# Altium schematic symbol library WR-PHD_Pin Header_2.00mm.SchLib: 63 symbols (part 2 of 2)
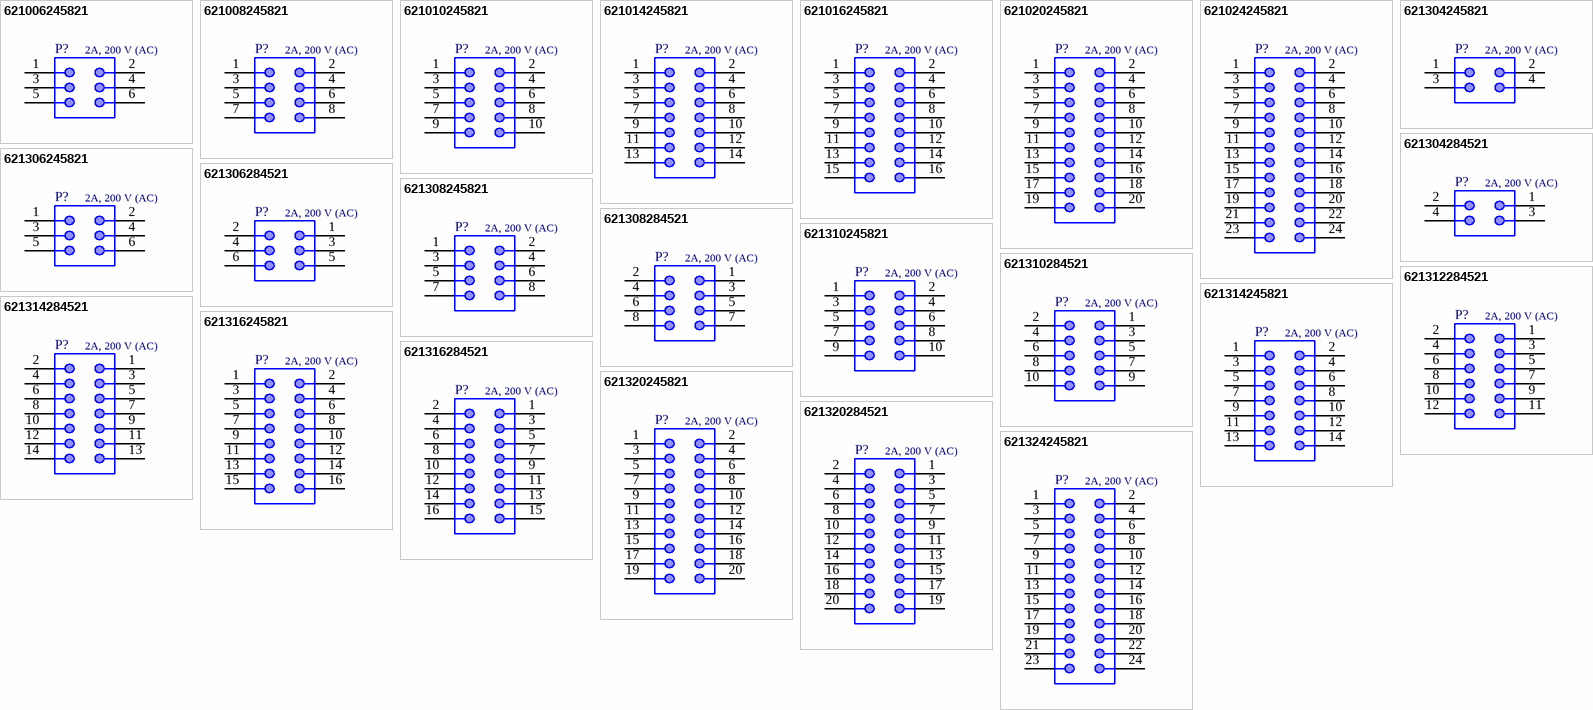
[diagram p2: symbols 621006245821 to 621324245821]

## 621310245821
designator P?, comment 2A, 200 V (AC)
WR-PHD Pin Header, SMT, pitch 2mm, Dual Row, Vertical, 10p; Manufacturer: Wurth Elektronik; Manufacturer Part Number: 621310245821; Pin Number: 10; Working Voltage: 200VAC; Withstanding Voltage: 500VAC; Contact Resistance: 20mOhm; ComponentLink1Description: Datasheet; ComponentLink1URL: https://www.we-online.com/catalog/datasheet/621310245821.pdf; Pitch: 2mm; Packaging: Tape and Reel; Gender: Pin Header; Rated Current: 2A; Row Number: Dual; Orientation: Vertical; Supplier 1 URL: N/A; Supplier 2 URL: N/A; Supplier 3 URL: N/A; LCSC Part #: N/A; Mount: SMD/SMT; Operating Temperature Max: + 105 C; Operating Temperature Min: - 40 C; Supplier 1: Mouser; Supplier 1 Part Number: N/A; Supplier 2: Digi-Key; Supplier 2 Part Number: N/A; Supplier 3: thegioiic; Supplier 3 Part Number: N/A; Value: 2A, 200 V (AC)
footprint 621310245821
pins: 1, 2, 3, 4, 5, 6, 7, 8, 9, 10

## 621310284521
designator P?, comment 2A, 200 V (AC)
WR-PHD Pin Header, SMT, pitch 2mm, Dual Row, Angled, 10p; Manufacturer: Wurth Elektronik; Manufacturer Part Number: 621310284521; Pin Number: 10; Working Voltage: 200VAC; Withstanding Voltage: 500VAC; Contact Resistance: 20mOhm; ComponentLink1Description: Datasheet; ComponentLink1URL: https://www.we-online.com/catalog/datasheet/621310284521.pdf; Pitch: 2mm; Packaging: Tape and Reel; Gender: Pin Header; Rated Current: 2A; Row Number: Dual; Orientation: Angled; Supplier 1 URL: N/A; Supplier 2 URL: N/A; Supplier 3 URL: N/A; LCSC Part #: N/A; Mount: SMD/SMT; Operating Temperature Max: + 105 C; Operating Temperature Min: - 40 C; Supplier 1: Mouser; Supplier 1 Part Number: N/A; Supplier 2: Digi-Key; Supplier 2 Part Number: N/A; Supplier 3: thegioiic; Supplier 3 Part Number: N/A; Value: 2A, 200 V (AC)
footprint 621310284521
pins: 1, 2, 3, 4, 5, 6, 7, 8, 9, 10

## 621312284521
designator P?, comment 2A, 200 V (AC)
WR-PHD Pin Header, SMT, pitch 2mm, Dual Row, Angled, 12p; Manufacturer: Wurth Elektronik; Manufacturer Part Number: 621312284521; Pin Number: 12; Working Voltage: 200VAC; Withstanding Voltage: 500VAC; Contact Resistance: 20mOhm; ComponentLink1Description: Datasheet; ComponentLink1URL: https://www.we-online.com/catalog/datasheet/621312284521.pdf; Pitch: 2mm; Packaging: Tape and Reel; Gender: Pin Header; Rated Current: 2A; Row Number: Dual; Orientation: Angled; Supplier 1 URL: N/A; Supplier 2 URL: N/A; Supplier 3 URL: N/A; LCSC Part #: N/A; Mount: SMD/SMT; Operating Temperature Max: + 105 C; Operating Temperature Min: - 40 C; Supplier 1: Mouser; Supplier 1 Part Number: N/A; Supplier 2: Digi-Key; Supplier 2 Part Number: N/A; Supplier 3: thegioiic; Supplier 3 Part Number: N/A; Value: 2A, 200 V (AC)
footprint 621312284521
pins: 1, 2, 3, 4, 5, 6, 7, 8, 9, 10, 11, 12

## 621314245821
designator P?, comment 2A, 200 V (AC)
WR-PHD Pin Header, SMT, pitch 2mm, Dual Row, Vertical, 14p; Manufacturer: Wurth Elektronik; Manufacturer Part Number: 621314245821; Pin Number: 14; Working Voltage: 200VAC; Withstanding Voltage: 500VAC; Contact Resistance: 20mOhm; ComponentLink1Description: Datasheet; ComponentLink1URL: https://www.we-online.com/catalog/datasheet/621314245821.pdf; Pitch: 2mm; Packaging: Tape and Reel; Gender: Pin Header; Rated Current: 2A; Row Number: Dual; Orientation: Vertical; Supplier 1 URL: N/A; Supplier 2 URL: N/A; Supplier 3 URL: N/A; LCSC Part #: N/A; Mount: SMD/SMT; Operating Temperature Max: + 105 C; Operating Temperature Min: - 40 C; Supplier 1: Mouser; Supplier 1 Part Number: N/A; Supplier 2: Digi-Key; Supplier 2 Part Number: N/A; Supplier 3: thegioiic; Supplier 3 Part Number: N/A; Value: 2A, 200 V (AC)
footprint 621314245821
pins: 1, 2, 3, 4, 5, 6, 7, 8, 9, 10, 11, 12, 13, 14

## 621314284521
designator P?, comment 2A, 200 V (AC)
WR-PHD Pin Header, SMT, pitch 2mm, Dual Row, Angled, 14p; Manufacturer: Wurth Elektronik; Manufacturer Part Number: 621314284521; Pin Number: 14; Working Voltage: 200VAC; Withstanding Voltage: 500VAC; Contact Resistance: 20mOhm; ComponentLink1Description: Datasheet; ComponentLink1URL: https://www.we-online.com/catalog/datasheet/621314284521.pdf; Pitch: 2mm; Packaging: Tape and Reel; Gender: Pin Header; Rated Current: 2A; Row Number: Dual; Orientation: Angled; Supplier 1 URL: N/A; Supplier 2 URL: N/A; Supplier 3 URL: N/A; LCSC Part #: N/A; Mount: SMD/SMT; Operating Temperature Max: + 105 C; Operating Temperature Min: - 40 C; Supplier 1: Mouser; Supplier 1 Part Number: N/A; Supplier 2: Digi-Key; Supplier 2 Part Number: N/A; Supplier 3: thegioiic; Supplier 3 Part Number: N/A; Value: 2A, 200 V (AC)
footprint 621314284521
pins: 1, 2, 3, 4, 5, 6, 7, 8, 9, 10, 11, 12, 13, 14

## 621316245821
designator P?, comment 2A, 200 V (AC)
WR-PHD Pin Header, SMT, pitch 2mm, Dual Row, Vertical, 16p; Manufacturer: Wurth Elektronik; Manufacturer Part Number: 621316245821; Pin Number: 16; Working Voltage: 200VAC; Withstanding Voltage: 500VAC; Contact Resistance: 20mOhm; ComponentLink1Description: Datasheet; ComponentLink1URL: https://www.we-online.com/catalog/datasheet/621316245821.pdf; Pitch: 2mm; Packaging: Tape and Reel; Gender: Pin Header; Rated Current: 2A; Row Number: Dual; Orientation: Vertical; Supplier 1 URL: N/A; Supplier 2 URL: N/A; Supplier 3 URL: N/A; LCSC Part #: N/A; Mount: SMD/SMT; Operating Temperature Max: + 105 C; Operating Temperature Min: - 40 C; Supplier 1: Mouser; Supplier 1 Part Number: N/A; Supplier 2: Digi-Key; Supplier 2 Part Number: N/A; Supplier 3: thegioiic; Supplier 3 Part Number: N/A; Value: 2A, 200 V (AC)
footprint 621316245821
pins: 1, 2, 3, 4, 5, 6, 7, 8, 9, 10, 11, 12, 13, 14, 15, 16

## 621316284521
designator P?, comment 2A, 200 V (AC)
WR-PHD Pin Header, SMT, pitch 2mm, Dual Row, Angled, 16p; Manufacturer: Wurth Elektronik; Manufacturer Part Number: 621316284521; Pin Number: 16; Working Voltage: 200VAC; Withstanding Voltage: 500VAC; Contact Resistance: 20mOhm; ComponentLink1Description: Datasheet; ComponentLink1URL: https://www.we-online.com/catalog/datasheet/621316284521.pdf; Pitch: 2mm; Packaging: Tape and Reel; Gender: Pin Header; Rated Current: 2A; Row Number: Dual; Orientation: Angled; Supplier 1 URL: N/A; Supplier 2 URL: N/A; Supplier 3 URL: N/A; LCSC Part #: N/A; Mount: SMD/SMT; Operating Temperature Max: + 105 C; Operating Temperature Min: - 40 C; Supplier 1: Mouser; Supplier 1 Part Number: N/A; Supplier 2: Digi-Key; Supplier 2 Part Number: N/A; Supplier 3: thegioiic; Supplier 3 Part Number: N/A; Value: 2A, 200 V (AC)
footprint 621316284521
pins: 1, 2, 3, 4, 5, 6, 7, 8, 9, 10, 11, 12, 13, 14, 15, 16

## 621320245821
designator P?, comment 2A, 200 V (AC)
WR-PHD Pin Header, SMT, pitch 2mm, Dual Row, Vertical, 20p; Manufacturer: Wurth Elektronik; Manufacturer Part Number: 621320245821; Pin Number: 20; Working Voltage: 200VAC; Withstanding Voltage: 500VAC; Contact Resistance: 20mOhm; ComponentLink1Description: Datasheet; ComponentLink1URL: https://www.we-online.com/catalog/datasheet/621320245821.pdf; Pitch: 2mm; Packaging: Tape and Reel; Gender: Pin Header; Rated Current: 2A; Row Number: Dual; Orientation: Vertical; Supplier 1 URL: N/A; Supplier 2 URL: N/A; Supplier 3 URL: N/A; LCSC Part #: N/A; Mount: SMD/SMT; Operating Temperature Max: + 105 C; Operating Temperature Min: - 40 C; Supplier 1: Mouser; Supplier 1 Part Number: N/A; Supplier 2: Digi-Key; Supplier 2 Part Number: N/A; Supplier 3: thegioiic; Supplier 3 Part Number: N/A; Value: 2A, 200 V (AC)
footprint 621320245821
pins: 1, 2, 3, 4, 5, 6, 7, 8, 9, 10, 11, 12, 13, 14, 15, 16, 17, 18, 19, 20

## 621320284521
designator P?, comment 2A, 200 V (AC)
WR-PHD Pin Header, SMT, pitch 2mm, Dual Row, Angled, 20p; Manufacturer: Wurth Elektronik; Manufacturer Part Number: 621320284521; Pin Number: 20; Working Voltage: 200VAC; Withstanding Voltage: 500VAC; Contact Resistance: 20mOhm; ComponentLink1Description: Datasheet; ComponentLink1URL: https://www.we-online.com/catalog/datasheet/621320284521.pdf; Pitch: 2mm; Packaging: Tape and Reel; Gender: Pin Header; Rated Current: 2A; Row Number: Dual; Orientation: Angled; Supplier 1 URL: N/A; Supplier 2 URL: N/A; Supplier 3 URL: N/A; LCSC Part #: N/A; Mount: SMD/SMT; Operating Temperature Max: + 105 C; Operating Temperature Min: - 40 C; Supplier 1: Mouser; Supplier 1 Part Number: N/A; Supplier 2: Digi-Key; Supplier 2 Part Number: N/A; Supplier 3: thegioiic; Supplier 3 Part Number: N/A; Value: 2A, 200 V (AC)
footprint 621320284521
pins: 1, 2, 3, 4, 5, 6, 7, 8, 9, 10, 11, 12, 13, 14, 15, 16, 17, 18, 19, 20

## 621324245821
designator P?, comment 2A, 200 V (AC)
WR-PHD Pin Header, SMT, pitch 2mm, Dual Row, Vertical, 24p; Manufacturer: Wurth Elektronik; Manufacturer Part Number: 621324245821; Pin Number: 24; Working Voltage: 200VAC; Withstanding Voltage: 500VAC; Contact Resistance: 20mOhm; ComponentLink1Description: Datasheet; ComponentLink1URL: https://www.we-online.com/catalog/datasheet/621324245821.pdf; Pitch: 2mm; Packaging: Tape and Reel; Gender: Pin Header; Rated Current: 2A; Row Number: Dual; Orientation: Vertical; Supplier 1 URL: N/A; Supplier 2 URL: N/A; Supplier 3 URL: N/A; LCSC Part #: N/A; Mount: SMD/SMT; Operating Temperature Max: + 105 C; Operating Temperature Min: - 40 C; Supplier 1: Mouser; Supplier 1 Part Number: N/A; Supplier 2: Digi-Key; Supplier 2 Part Number: N/A; Supplier 3: thegioiic; Supplier 3 Part Number: N/A; Value: 2A, 200 V (AC)
footprint 621324245821
pins: 1, 2, 3, 4, 5, 6, 7, 8, 9, 10, 11, 12, 13, 14, 15, 16, 17, 18, 19, 20, 21, 22, 23, 24